# Altium schematic symbol library BQ24075TRGTR.SchLib: 1 symbol
Pins are listed as number, name and electrical type; pins without a type are passive.

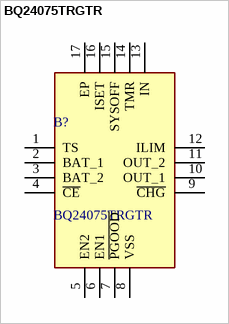
[diagram p0: symbol BQ24075TRGTR]

## BQ24075TRGTR
designator B?
1.5A USB-Friendly Li-Ion Battery Charger and Power-Path Management IC with 4.2 VBAT; Manufacturer_Name: Texas Instruments; Geometry.Height: 1mm; Mouser Part Number: 595-BQ24075TRGTR; Mouser Price/Stock: https://www.mouser.co.uk/ProductDetail/Texas-Instruments/BQ24075TRGTR?qs=%2Fqzd9s%252BcLd4uxZAT5jNskQ%3D%3D; Manufacturer_Part_Number: BQ24075TRGTR; Datasheet Link: http://componentsearchengine.com/Datasheets/1/BQ24075TRGTR.pdf
footprint QFN50P300X300X100-17N-D
pins: 1 TS, 2 BAT_1, 3 BAT_2, 4 ~{CE}, 5 EN2, 6 EN1, 7 ~{PGOOD}, 8 VSS, 9 ~{CHG}, 10 OUT_1, 11 OUT_2, 12 ILIM, 13 IN, 14 TMR, 15 SYSOFF, 16 ISET, 17 EP